# Altium schematic symbol library buck_5V.SchLib: 1 symbol
Pins are listed as number, name and electrical type; pins without a type are passive.

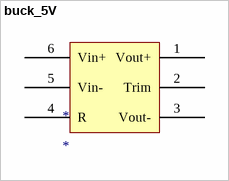
[diagram p0: symbol buck_5V]

## buck_5V
designator *
footprint buck_5V
pins: 1 Vout+, 2 Trim, 3 Vout-, 4 R, 5 Vin-, 6 Vin+